# Altium footprint library PcbLib.PcbLib: 43 footprints (part 3 of 3)
Each footprint in its own frame and in the unit in brackets; x right, y up, seen from the top. Pads: shape width x height; smd on the part's side, far side on the other; paste and mask are expansions set on the pad; w line width, h text height; cw(c..) or ccw(c..) is an arc to the next point about the centre after c.
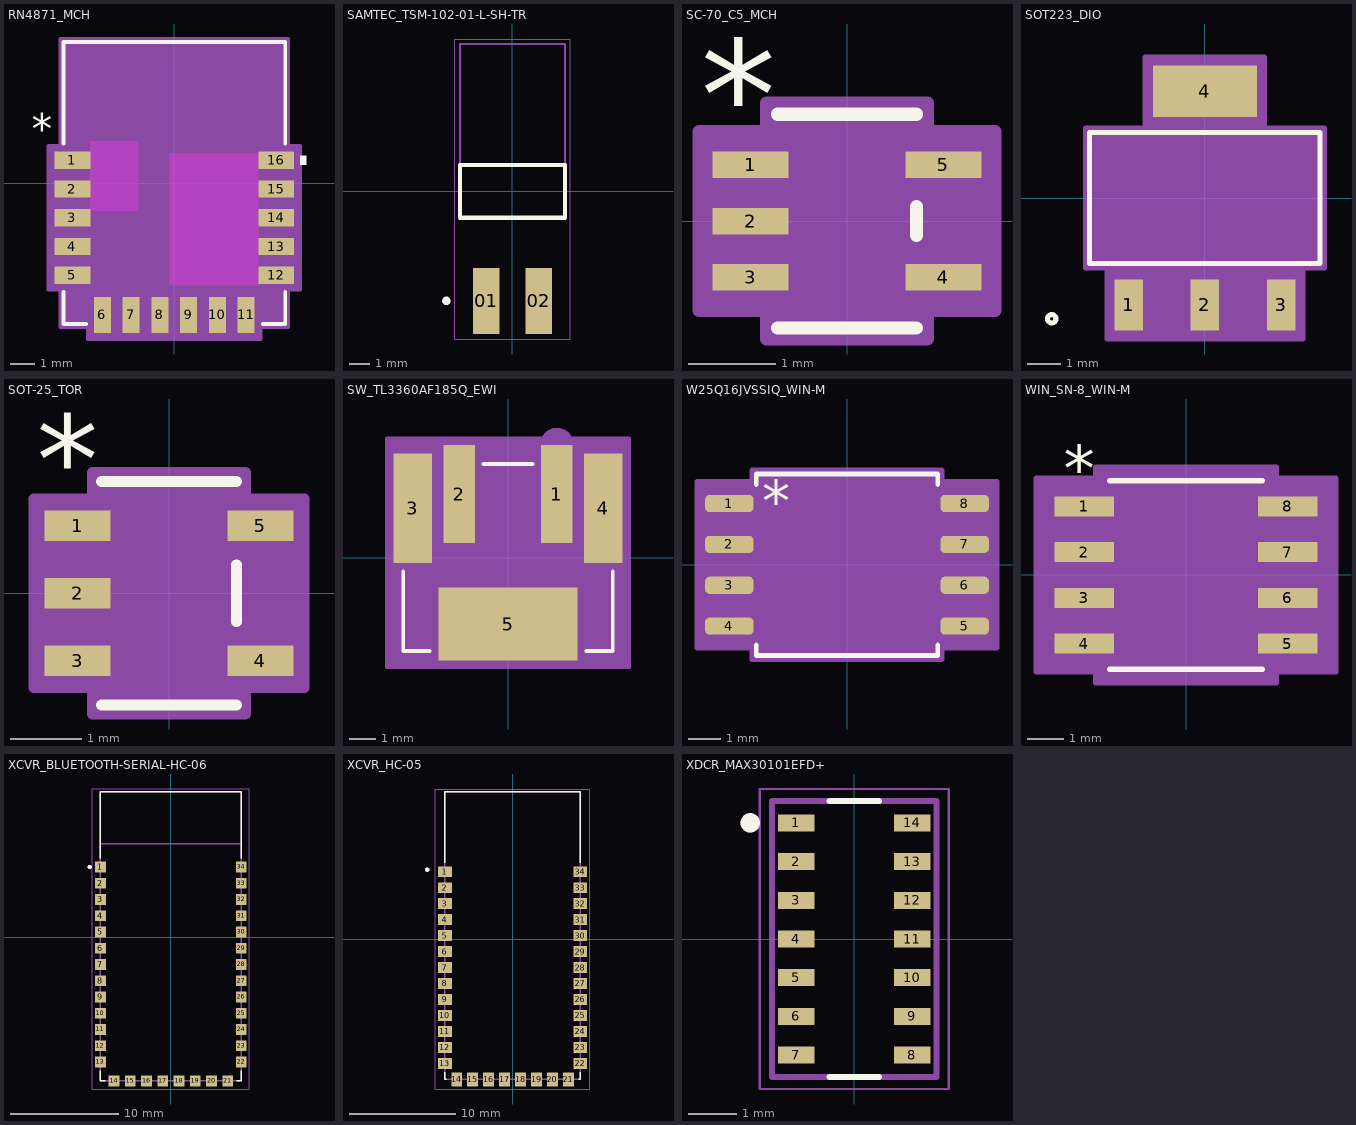
[diagram p2: the footprints below, top view; thin cyan lines are the x and y axes]

## RN4871_MCH [mil]
pads (16):
  rect 59x28 smd paste+0 mask+0: 1(-167.35,37.4) 2(-167.35,-9.8) 3(-167.35,-57) 4(-167.35,-104.2) 5(-167.35,-151.4) 12(167.35,-151.4) 13(167.35,-104.2) 14(167.35,-57) 15(167.35,-9.8) 16(167.35,37.4)
  rect 28x59 smd paste+0 mask+0: 6(-118,-216.55) 7(-70.8,-216.55) 8(-23.6,-216.55) 9(23.6,-216.55) 10(70.8,-216.55) 11(118,-216.55)
Top Overlay:
  region: 206.85,44.9 216.85,44.9 216.85,29.9 206.85,29.9
  lines w6: -182,-178.5 -182,-231.5 -145.1,-231.5 ; -182,64.5 -182,231.5 182,231.5 182,64.5 ; 145.1,-231.5 182,-231.5 182,-178.5
  text "*" at -234.35,64.8 h50
Keep-Out Layer:
  region: -137.85,68.8 -137.85,-45.2 -58.85,-45.2 -58.85,68.8
  region: -8.15,49.3 -8.15,-167.7 137.85,-167.7 137.85,49.3
Mechanical 13:
  lines w1: -177,176.5 -127,226.5 ; -177,-226.5 -177,226.5 177,226.5 177,-226.5 -177,-226.5
  text "*" at -140.35,49.8 h50
Mechanical 15:
  region: 206.85,-175.4 206.85,61.4 187,61.4 187,236.5 -187,236.5 -187,61.4 -206.85,61.4 -206.85,-175.4 -187,-175.4 -187,-236.5 -142,-236.5 -142,-256.05 142,-256.05 142,-236.5 187,-236.5 187,-175.4
  lines w6: -206.85,-175.4 -187,-175.4 -187,-236.5 -142,-236.5 -142,-256.05 142,-256.05 142,-236.5 187,-236.5 187,-175.4 206.85,-175.4 206.85,61.4 187,61.4 187,236.5 -187,236.5 -187,61.4 -206.85,61.4 -206.85,-175.4
Multi-Layer:
  lines w1: -177,68.8 177,68.8

## SAMTEC_TSM-102-01-L-SH-TR [mm]
pads (2):
  rect 1.27x3.18 smd: 01(-1.27,-5.28) 02(1.27,-5.28)
Top Overlay:
  circle w0.2: c-3.19,-5.28 r0.1
  lines w0.2: -2.54,-1.27 2.54,-1.27 2.54,1.27 -2.54,1.27 -2.54,-1.27
Mechanical 13:
  circle w0.2: c-3.19,-5.28 r0.1
  lines w0.1: -2.54,-1.27 -2.54,7.11 2.54,7.11 2.54,-1.27 ; -2.54,-1.27 2.54,-1.27 ; -2.54,-1.27 -2.54,1.27 2.54,1.27 2.54,-1.27
Mechanical 15:
  lines w0.05: -2.79,-7.12 2.79,-7.12 2.79,7.36 -2.79,7.36 -2.79,-7.12

## SC-70_C5_MCH [mil]
pads (5):
  rect 34.5x12 smd paste+0 mask+0: 1(-43.75,25.59) 2(-43.75,0) 3(-43.75,-25.59) 4(43.75,-25.59) 5(43.75,25.59)
Top Overlay:
  lines w6: -31.5,-48.5 31.5,-48.5 ; -31.5,48.5 31.5,48.5 ; 31.5,-6.49 31.5,6.49
  text "*" at -66.25,32.59 h50
Mechanical 13:
  lines w0: -12,43.5 ccw(c0,43.5) 12,43.5
  lines w1: -47,-31.59 -26.5,-31.59 -26.5,-19.59 -47,-19.59 -47,-31.59 ; -47,-6 -26.5,-6 -26.5,6 -47,6 -47,-6 ; -47,19.59 -26.5,19.59 -26.5,31.59 -47,31.59 -47,19.59 ; -26.5,-43.5 -26.5,43.5 26.5,43.5 26.5,-43.5 -26.5,-43.5 ; 26.5,-31.59 47,-31.59 47,-19.59 26.5,-19.59 26.5,-31.59 ; 26.5,19.59 47,19.59 47,31.59 26.5,31.59 26.5,19.59
  text "*" at -29,-10.41 h50
Mechanical 15:
  region: 36.5,-53.5 -36.5,-53.5 -36.5,-40.59 -67,-40.59 -67,40.59 -36.5,40.59 -36.5,53.5 36.5,53.5 36.5,40.59 67,40.59 67,-40.59 36.5,-40.59
  lines w6: -67,-40.59 -67,40.59 -36.5,40.59 -36.5,53.5 36.5,53.5 36.5,40.59 67,40.59 67,-40.59 36.5,-40.59 36.5,-53.5 -36.5,-53.5 -36.5,-40.59 -67,-40.59
3D body "SC-70_C5_MCH.step": height 43.11, standoff 0, extent -47.01,-43.5 47.01,43.5

## SOT223_DIO [mil]
pads (4):
  rect 34x61 smd paste+0 mask+0: 1(-90.55,-127) 2(0,-127) 3(90.55,-127)
  rect 124x61 smd paste+0 mask+0: 4(0,127)
Top Overlay:
  circle w6: c-182,-143.5 r5
  lines w6: -137,-78 -137,78 137,78 137,-78 -137,-78
Mechanical 13:
  circle w0: c-122,-63 r5
  lines w1: -132,-73 -132,73 132,73 132,-73 -132,-73 ; -106.55,-143.5 -74.55,-143.5 -74.55,-73 -106.55,-73 -106.55,-143.5 ; -61,73 -61,143.5 61,143.5 61,73 -61,73 ; -16,-143.5 16,-143.5 16,-73 -16,-73 -16,-143.5 ; 74.55,-143.5 106.55,-143.5 106.55,-73 74.55,-73 74.55,-143.5
Mechanical 15:
  region: -142,-83 -142,83 -71,83 -71,167.5 71,167.5 71,83 142,83 142,-83 116.55,-83 116.55,-167.5 -116.55,-167.5 -116.55,-83
  lines w6: -142,-83 -116.55,-83 -116.55,-167.5 116.55,-167.5 116.55,-83 142,-83 142,83 71,83 71,167.5 -71,167.5 -71,83 -142,83 -142,-83
3D body "SOT223_DIO.step": height 71.1, standoff 0, extent -132.01,-143.5 132.01,143.5

## SOT-25_TOR [mil]
pads (5):
  rect 36.5x17 smd paste+0 mask+0: 1(-50.75,37.4) 2(-50.75,0) 3(-50.75,-37.4) 4(50.75,-37.4) 5(50.75,37.4)
Top Overlay:
  lines w6: -37.5,-62 37.5,-62 ; -37.5,62 37.5,62 ; 37.5,-15.8 37.5,15.8
  text "*" at -73.25,49.4 h50
Mechanical 13:
  lines w0: -12,57 ccw(c0,57) 12,57
  lines w1: -55,-45.9 -32.5,-45.9 -32.5,-28.9 -55,-28.9 -55,-45.9 ; -55,-8.5 -32.5,-8.5 -32.5,8.5 -55,8.5 -55,-8.5 ; -55,28.9 -32.5,28.9 -32.5,45.9 -55,45.9 -55,28.9 ; -32.5,-57 -32.5,57 32.5,57 32.5,-57 -32.5,-57 ; 32.5,-45.9 55,-45.9 55,-28.9 32.5,-28.9 32.5,-45.9 ; 32.5,28.9 55,28.9 55,45.9 32.5,45.9 32.5,28.9
  text "*" at -35,6.4 h50
Mechanical 15:
  region: 42.5,-67 -42.5,-67 -42.5,-52.4 -75,-52.4 -75,52.4 -42.5,52.4 -42.5,67 42.5,67 42.5,52.4 75,52.4 75,-52.4 42.5,-52.4
  lines w6: -75,-52.4 -75,52.4 -42.5,52.4 -42.5,67 42.5,67 42.5,52.4 75,52.4 75,-52.4 42.5,-52.4 42.5,-67 -42.5,-67 -42.5,-52.4 -75,-52.4
3D body "SOT-25_TOR.step": height 51.1, standoff 0, extent -55,-57.01 55,57.01

## SW_TL3360AF185Q_EWI [mil]
pads (5):
  rect 47.5x148 smd paste+0 mask+0: 1(73.75,96) 2(-73.75,96)
  rect 57.5x165 smd paste-82.5 mask-82.5: 3(-143.75,74.5) 4(143.75,74.5)
  rect 210x110 smd paste-105 mask-105: 5(0,-100)
Top Overlay:
  lines w6: -158,-21.1 -158,-141 -118.1,-141 ; -36.9,141 36.9,141 ; 118.1,-141 158,-141 158,-21.1
Mechanical 13:
  circle w20: c73.75,171 r15
  lines w1: -153,-136 153,-136 153,136 -153,136 -153,-136
Mechanical 15:
  region: 182.5,180 -182.5,180 -182.5,-165 182.5,-165
  lines w6: -182.5,-165 -182.5,180 182.5,180 182.5,-165 -182.5,-165
3D body "TL3360AF185Q.STEP": height 248.82, standoff -11.02, extent -157.95,-130 147.95,143.12

## W25Q16JVSSIQ_WIN-M [mil]
pads (8):
  rrect50% 59x21 smd paste+0 mask+0: 1(-144,75) 2(-144,25) 3(-144,-25) 4(-144,-75) 5(144,-75) 6(144,-25) 7(144,25) 8(144,75)
Top Overlay:
  lines w6: -111,-98.12 -111,-111 111,-111 111,-98.12 ; -111,98.12 -111,111 111,111 111,98.12
  text "*" at -103.5,53 h50
Mechanical 13:
  lines w0: -12,106 ccw(c0,106) 12,106
  lines w1: -159.5,-84.5 -106,-84.5 -106,-65.5 -159.5,-65.5 -159.5,-84.5 ; -159.5,-34.5 -106,-34.5 -106,-15.5 -159.5,-15.5 -159.5,-34.5 ; -159.5,15.5 -106,15.5 -106,34.5 -159.5,34.5 -159.5,15.5 ; -159.5,65.5 -106,65.5 -106,84.5 -159.5,84.5 -159.5,65.5 ; -106,-106 -106,106 106,106 106,-106 -106,-106 ; 106,-84.5 159.5,-84.5 159.5,-65.5 106,-65.5 106,-84.5 ; 106,-34.5 159.5,-34.5 159.5,-15.5 106,-15.5 106,-34.5 ; 106,15.5 159.5,15.5 159.5,34.5 106,34.5 106,15.5 ; 106,65.5 159.5,65.5 159.5,84.5 106,84.5 106,65.5
  text "*" at -166.5,91 h50
Mechanical 15:
  region: -116,-102 -183.5,-102 -183.5,102 -116,102 -116,116 116,116 116,102 183.5,102 183.5,-102 116,-102 116,-116 -116,-116
  lines w6: -183.5,-102 -116,-102 -116,-116 116,-116 116,-102 183.5,-102 183.5,102 116,102 116,116 -116,116 -116,102 -183.5,102 -183.5,-102

## WIN_SN-8_WIN-M [mil]
pads (8):
  rect 65.5x22 smd paste+0 mask+0: 1(-111.25,75) 2(-111.25,25) 3(-111.25,-25) 4(-111.25,-75) 5(111.25,-75) 6(111.25,-25) 7(111.25,25) 8(111.25,75)
Top Overlay:
  lines w6: -83.5,-103 83.5,-103 ; -83.5,103 83.5,103
  text "*" at -133.75,92 h50
Mechanical 13:
  lines w0: -12,98 ccw(c0,98) 12,98
  lines w1: -122,-85 -122,-65 -78.5,-65 -78.5,-85 -122,-85 ; -122,-35 -122,-15 -78.5,-15 -78.5,-35 -122,-35 ; -122,15 -122,35 -78.5,35 -78.5,15 -122,15 ; -122,65 -122,85 -78.5,85 -78.5,65 -122,65 ; -78.5,-98 78.5,-98 78.5,98 -78.5,98 -78.5,-98 ; 78.5,-85 78.5,-65 122,-65 122,-85 78.5,-85 ; 78.5,-35 78.5,-15 122,-15 122,-35 78.5,-35 ; 78.5,15 78.5,35 122,35 122,15 78.5,15 ; 78.5,65 78.5,85 122,85 122,65 78.5,65
  text "*" at -76,45 h50
Mechanical 15:
  region: -98.5,-106 -164,-106 -164,106 -98.5,106 -98.5,118 98.5,118 98.5,106 164,106 164,-106 98.5,-106 98.5,-118 -98.5,-118
  lines w6: -164,-106 -164,106 -98.5,106 -98.5,118 98.5,118 98.5,106 164,106 164,-106 98.5,-106 98.5,-118 -98.5,-118 -98.5,-106 -164,-106
3D body "WIN_SN-8_WIN.step": height 69.09, standoff 0, extent -122.01,-97.99 122.01,97.99

## XCVR_BLUETOOTH-SERIAL-HC-06 [mm]
height 2
pads (34):
  rect 1x1 smd: 1(-6.5,6.5) 2(-6.5,5) 3(-6.5,3.5) 4(-6.5,2) 5(-6.5,0.5) 6(-6.5,-1) 7(-6.5,-2.5) 8(-6.5,-4) 9(-6.5,-5.5) 10(-6.5,-7) 11(-6.5,-8.5) 12(-6.5,-10) 13(-6.5,-11.5) 14(-5.25,-13.25) 15(-3.75,-13.25) 16(-2.25,-13.25) 17(-0.75,-13.25) 18(0.75,-13.25) 19(2.25,-13.25) 20(3.75,-13.25) 21(5.25,-13.25) 22(6.5,-11.5) 23(6.5,-10) 24(6.5,-8.5) 25(6.5,-7) 26(6.5,-5.5) 27(6.5,-4) 28(6.5,-2.5) 29(6.5,-1) 30(6.5,0.5) 31(6.5,2) 32(6.5,3.5) 33(6.5,5) 34(6.5,6.5)
Top Overlay:
  circle w0.2: c-7.5,6.5 r0.1
  lines w0.127: -6.5,-12.314 -6.5,-13.25 -6.064,-13.25 ; -6.5,7.314 -6.5,13.45 6.5,13.45 6.5,7.314 ; 6.064,-13.25 6.5,-13.25 6.5,-12.314
Mechanical 13:
  circle w0.2: c-7.5,6.5 r0.1
  lines w0.127: -6.5,8.65 -6.5,-13.25 6.5,-13.25 6.5,8.65 ; -6.5,8.65 -6.5,13.45 6.5,13.45 6.5,8.65 ; -6.5,8.65 6.5,8.65
  text "ANTENNA" at -3.81,10.16 h1.27
Mechanical 15:
  lines w0.05: -7.25,-14 7.25,-14 7.25,13.7 -7.25,13.7 -7.25,-14
3D body "step_temp.STEP": height 2, standoff 0, extent -6.5,-13.5 6.5,13.5

## XCVR_HC-05 [mm]
pads (34):
  rect 1.3x1 smd: 1(-6.35,6.325) 2(-6.35,4.825) 3(-6.35,3.325) 4(-6.35,1.825) 5(-6.35,0.325) 6(-6.35,-1.175) 7(-6.35,-2.675) 8(-6.35,-4.175) 9(-6.35,-5.675) 10(-6.35,-7.175) 11(-6.35,-8.675) 12(-6.35,-10.175) 13(-6.35,-11.675) 22(6.35,-11.675) 23(6.35,-10.175) 24(6.35,-8.675) 25(6.35,-7.175) 26(6.35,-5.675) 27(6.35,-4.175) 28(6.35,-2.675) 29(6.35,-1.175) 30(6.35,0.325) 31(6.35,1.825) 32(6.35,3.325) 33(6.35,4.825) 34(6.35,6.325)
  rect 1x1.3 smd: 14(-5.25,-13.175) 15(-3.75,-13.175) 16(-2.25,-13.175) 17(-0.75,-13.175) 18(0.75,-13.175) 19(2.25,-13.175) 20(3.75,-13.175) 21(5.25,-13.175)
Top Overlay:
  circle w0.2: c-8,6.5 r0.1
  lines w0.127: -6.35,-12.495 -6.35,-13.175 -6.22,-13.175 ; -6.35,7.145 -6.35,13.825 6.35,13.825 6.35,7.145 ; 6.22,-13.175 6.35,-13.175 6.35,-12.495
Mechanical 13:
  circle w0.2: c-8,6.5 r0.1
  lines w0.127: -6.35,-13.175 -6.35,13.825 6.35,13.825 6.35,-13.175 -6.35,-13.175
Mechanical 15:
  lines w0.05: -7.25,-14.075 -7.25,14.075 7.25,14.075 7.25,-14.075 -7.25,-14.075
3D body "step_temp.STEP": height 2.2, standoff 0, extent -6.5,-13.45 6.5,13.45

## XDCR_MAX30101EFD+ [mm]
pads (14):
  rect 0.75x0.35 smd: 1(-1.2,2.4) 2(-1.2,1.6) 3(-1.2,0.8) 4(-1.2,0) 5(-1.2,-0.8) 6(-1.2,-1.6) 7(-1.2,-2.4) 8(1.2,-2.4) 9(1.2,-1.6) 10(1.2,-0.8) 11(1.2,0) 12(1.2,0.8) 13(1.2,1.6) 14(1.2,2.4)
Top Overlay:
  circle w0.2: c-2.15,2.4 r0.1
  lines w0.127: -0.505,-2.85 0.505,-2.85 ; -0.505,2.85 0.505,2.85
Mechanical 13:
  circle w0.2: c-2.15,2.4 r0.1
  lines w0.127: -1.7,-2.85 -1.7,2.85 1.7,2.85 1.7,-2.85 -1.7,-2.85
Mechanical 15:
  lines w0.05: -1.95,-3.1 -1.95,3.1 1.95,3.1 1.95,-3.1 -1.95,-3.1